# Altium schematic symbol library SnapEDAsch.SchLib: 1 symbol
Pins are listed as number, name and electrical type; pins without a type are passive.

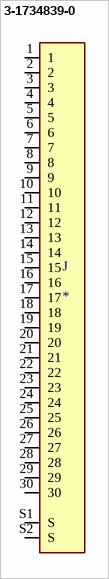
[diagram p0: symbol 3-1734839-0]

## 3-1734839-0
designator J
0.5mm Pitch 30 Way Right Angle SMT Female FPC Connector; ZIF Top Contact; MF: TE Connectivity; MP: 3-1734839-0; TE_purchase_URL: https://www.te.com/usa-en/product-3-1734839-0.html?te_bu=Cor&te_type=disp&te_campaign=seda_glo_cor-seda-global-disp-prtnr-fy19-seda-model-bom-cta_sma-317_1&elqCampaignId=32493; Package: None; Value: *; Availability: Unavailable; SnapEDA_Link: https://www.snapeda.com/parts/3-1734839-0/TE%20Connectivity%20AMP%20Connectors/view-part/2549688/?ref=snap; Price: None
footprint TE_3-1734839-0
pins: 1, 2, 3, 4, 5, 6, 7, 8, 9, 10, 11, 12, 13, 14, 15, 16, 17, 18, 19, 20, 21, 22, 23, 24, 25, 26, 27, 28, 29, 30, S1 S, S2 S